# EAGLE library part M16 (library FSAE Electric (Alexander Ray's conflicted copy 2016-04-02))
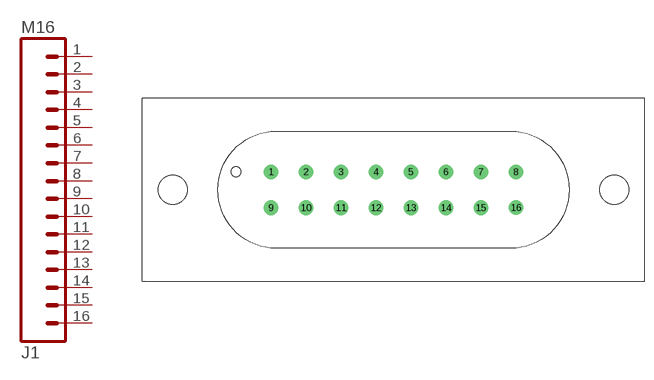
[diagram p82: symbol with the pads of 19428-0016; footprint 19428-0016]

Designator prefix J1

## M16_M_194280016 (PARTNO: 0194280016)  [19428-0016]
1  1  pas
2  2  pas
3  3  pas
4  4  pas
5  5  pas
6  6  pas
7  7  pas
8  8  pas
9  9  pas
10  10  pas
11  11  pas
12  12  pas
13  13  pas
14  14  pas
15  15  pas
16  16  pas

## Footprint 19428-0016 (pad centres in mm)
drill 1.626: 1 -20.447,2.997; 2 -14.605,2.997; 3 -8.763,2.997; 4 -2.921,2.997; 5 2.921,2.997; 6 8.763,2.997; 7 14.605,2.997; 8 20.447,2.997; 9 -20.447,-2.997; 10 -14.605,-2.997; 11 -8.763,-2.997; 12 -2.921,-2.997; 13 2.921,-2.997; 14 8.763,-2.997; 15 14.605,-2.997; 16 20.472,-2.972
hole 1.613 at -26.289,2.997
hole 4.826 at -36.83,0
hole 4.826 at 36.83,0